# Altium schematic symbol library Summits7Beta_LIB_Sch.SchLib: 6 symbols
Pins are listed as number, name and electrical type; pins without a type are passive.

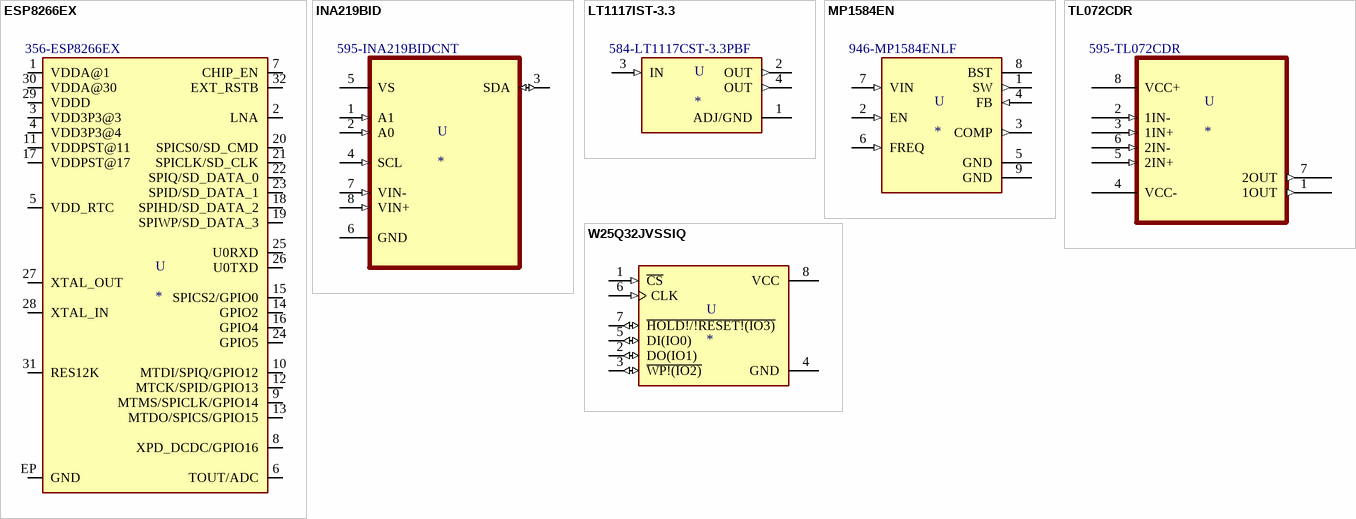
[diagram p0: symbols ESP8266EX to W25Q32JVSSIQ]

## ESP8266EX
designator U  Supplier Part Number 1: 356-ESP8266EX
Microcontrolador ESP8266; MF: Espressif Systems; Availability: Unavailable; SnapEDA_Link: https://www.snapeda.com/parts/ESP8266/Espressif%20Systems/view-part/106411/?ref=snap; Package: VFQFN-32 Espressif Systems; Value: *; MP: ESP8266; Price: None; Supplier 1: Mouser
footprint ESP8266_QFN32-5X5MM (Footprint del ESP8266EX)
footprint ESP8266_QFN32-5X5MM (Footprint del ESP8266EX)
pins: 1 VDDA@1 (io), 2 LNA (io), 3 VDD3P3@3 (io), 4 VDD3P3@4 (io), 5 VDD_RTC (io), 6 TOUT/ADC (io), 7 CHIP_EN (io), 8 XPD_DCDC/GPIO16 (io), 9 MTMS/SPICLK/GPIO14 (io), 10 MTDI/SPIQ/GPIO12 (io), 11 VDDPST@11 (io), 12 MTCK/SPID/GPIO13 (io), 13 MTDO/SPICS/GPIO15 (io), 14 GPIO2 (io), 15 SPICS2/GPIO0 (io), 16 GPIO4 (io), 17 VDDPST@17 (io), 18 SPIHD/SD_DATA_2 (io), 19 SPIWP/SD_DATA_3 (io), 20 SPICS0/SD_CMD (io), 21 SPICLK/SD_CLK (io), 22 SPIQ/SD_DATA_0 (io), 23 SPID/SD_DATA_1 (io), 24 GPIO5 (io), 25 U0RXD (io), 26 U0TXD (io), 27 XTAL_OUT (io), 28 XTAL_IN (io), 29 VDDD (io), 30 VDDA@30 (io), 31 RES12K (io), 32 EXT_RSTB (io), EP GND (io)

## INA219BID
designator U  Supplier Part Number 1: 595-INA219BIDCNT
Current Monitor Regulator High-Side 10mA 8-SOIC; MP: INA219BID; MF: Texas Instruments; SnapEDA_Link: https://www.snapeda.com/parts/INA219BID/Texas%20Instruments/view-part/228188/?ref=snap; Availability: Unavailable; Price: None; Package: SOIC-8 Texas Instruments; Value: *; Supplier 1: Mouser
footprint INA219BID-SOIC8-150-SN (Monitor de Corriente)
pins: 1 A1 (in), 2 A0 (in), 3 SDA (io), 4 SCL (in), 5 VS (power), 6 GND, 7 VIN- (in), 8 VIN+ (in)

## LT1117IST-3.3
designator U  Supplier Part Number 1: 584-LT1117CST-3.3PBF
LDO Regulator Pos 3.3V 0.8A Automotive 4-Pin_3+Tab_ SOT-223 Tube; MP: LT1117IST-5#PBF; MF: Analog Devices; Value: *; Availability: Unavailable; Price: None; Package: SOT-223-3 Analog Devices; SnapEDA_Link: https://www.snapeda.com/parts/LT1117IST-5%23PBF/Analog%20Devices/view-part/4348177/?ref=snap; Supplier 1: Mouser
footprint LT1117IST-3.3_SOT-223 (Regulador 3.3V)
pins: 1 ADJ/GND (power), 2 OUT (out), 3 IN (in), 4 OUT (out)

## MP1584EN
designator U  Supplier Part Number 1: 946-MP1584ENLF
Buck Switching Regulator IC Positive Adjustable 0.8V 1 Output 3A 8-SOIC _0.154, 3.90mm Width_ Exposed Pad; MP: MP1584EN; MF: Monolithic Power; Value: *; Package: SOIC-8 Monolithic Power; SnapEDA_Link: https://www.snapeda.com/parts/MP1584EN/Monolithic%20Power%20Systems%20Inc./view-part/891721/?ref=snap; Price: None; Availability: Unavailable; Supplier 1: Mouser
footprint MP1584_SOIC127P600X170-9N
pins: 1 SW (out), 2 EN (in), 3 COMP (out), 4 FB (in), 5 GND (power), 6 FREQ (in), 7 VIN (in), 8 BST, 9 GND (power)

## TL072CDR
designator U  Supplier Part Number 1: 595-TL072CDR
J-FET Amplifier 2 Circuit 8-SOIC; MF: Texas Instruments; MP: TL072CDR; Package: SOIC-8 Texas Instruments; Value: *; Price: None; Availability: Unavailable; SnapEDA_Link: https://www.snapeda.com/parts/TL072CDR/Texas%20Instruments/view-part/100795/?ref=snap; Supplier 1: Mouser
footprint Tl072CD_SOIC127P600X175-8N
pins: 1 1OUT (out), 2 1IN- (in), 3 1IN+ (in), 4 VCC-, 5 2IN+ (in), 6 2IN- (in), 7 2OUT (out), 8 VCC+ (power)

## W25Q32JVSSIQ
designator U
FLASH - NOR Memory IC 32Mb _4M x 8_ SPI - Quad I/O 133MHz 8-SOIC; MF: Winbond; MP: W25Q32JVSSIQ; Package: SOIC-8 Winbond; Price: None; SnapEDA_Link: https://www.snapeda.com/parts/W25Q32JVSSIQ/Winbond%20Electronics/view-part/596953/?ref=snap; Availability: Unavailable; Value: *
footprint W25Q32JVSS_SOIC8-208-SS (Memoria Flash SOIC8 SS)
pins: 1 ~{CS} (in), 2 DO(IO1) (io), 3 ~{WP!(IO2)} (io), 4 GND (power), 5 DI(IO0) (io), 6 CLK (in), 7 ~{HOLD!/!RESET!(IO3)} (io), 8 VCC (power)